# EAGLE library part LT3430 (library linear-technology)
Switching Regulator High Voltage, 3A, 200kHz/100kHz Step-Down
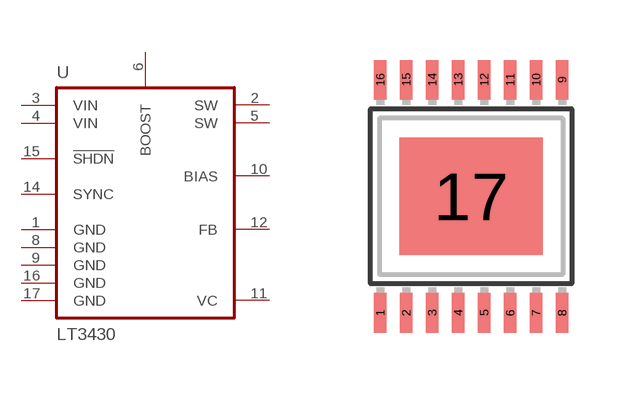
[diagram p31: symbol with the pads of TSSOP16-BC; footprint TSSOP16-BC]

Designator prefix U

## LT3430 (P1I: o)  [TSSOP16-BC]
1  GND  pwr
2  SW  pas
3  VIN  in
4  VIN  in
5  SW  out
6  BOOST  pwr
8  GND  pwr
9  GND  pwr
10  BIAS  pas
11  VC  pas
12  FB  pas
14  SYNC  pas
15  !SHDN!  in
16  GND  pwr
17  GND  pwr

## Footprint TSSOP16-BC (pad centres in mm)
TSSOP16-BC - FE Package Exposed pad variation BC
smd 0.305 x 0.991: 1 -2.275,-2.918; 2 -1.625,-2.918; 3 -0.975,-2.918; 4 -0.325,-2.918; 5 0.325,-2.918; 6 0.975,-2.918; 7 1.625,-2.918; 8 2.275,-2.918; 9 2.275,2.918; 10 1.625,2.918; 11 0.975,2.918; 12 0.325,2.918; 13 -0.325,2.918; 14 -0.975,2.918; 15 -1.625,2.918; 16 -2.275,2.918
smd 3.58 x 2.94: 17 0,0